# EAGLE library part HDR_1X08 (library GPLIB_CONN)
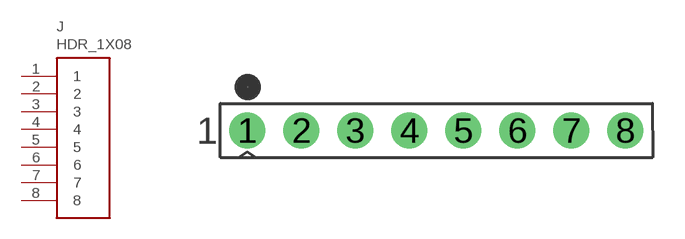
[diagram p45: symbol with the pads of HDR_1X08_2.54MM_TH_ST; footprint HDR_1X08_2.54MM_TH_ST]

Designator prefix J

## HDR_1X08_2.54MM_TH_ST  [HDR_1X08_2.54MM_TH_ST]
1  1  pas
2  2  pas
3  3  pas
4  4  pas
5  5  pas
6  6  pas
7  7  pas
8  8  pas

## Footprint HDR_1X08_2.54MM_TH_ST (pad centres in mm)
drill 1.1 pad 1.7: 1 -8.89,0; 2 -6.35,0; 3 -3.81,0; 4 -1.27,0; 5 1.27,0; 6 3.81,0; 7 6.35,0; 8 8.89,0